# Altium integrated library Linear Technology Power Management Supercapacitor Chargers.IntLib: 96 symbols (part 2 of 8)
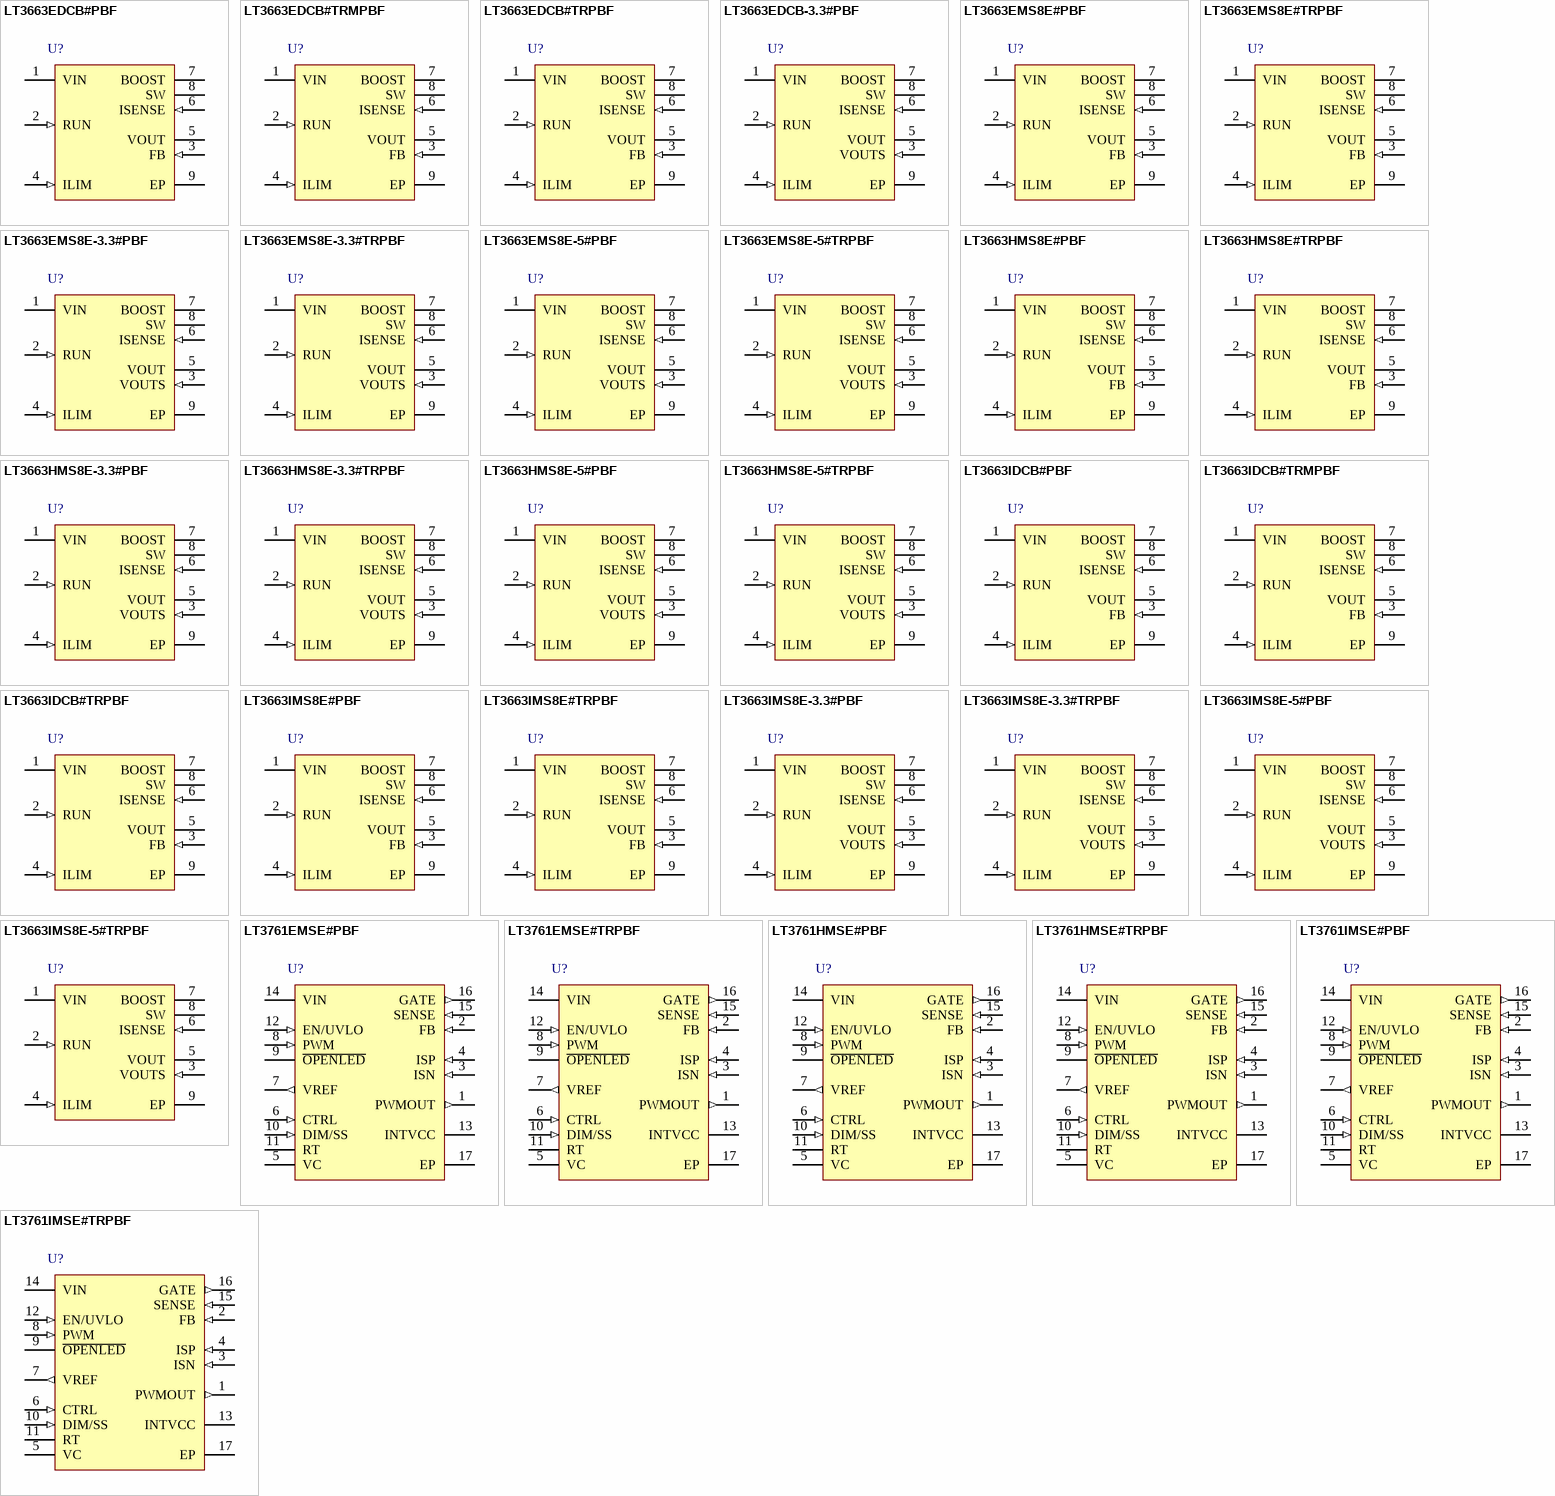
[diagram p4: symbols LT3663EDCB#PBF to LT3761IMSE#TRPBF]

## LT3663IMS8E#PBF
designator U?
1.2 A, 1.5 MHz Step-Down Switching Regulator with Output Current Limit, 7 to 36 V Vin, 5.5 V Vout MAX, 8-pin SOP (MS8E-8-EDP), -40 to 125 degC, Pb-Free; Manufacturer: Linear Technology; PartNumber: LT3663IMS8E#PBF; Output Current(A): 1.2; Topology: Buck; DatasheetVersion: Rev. C; PackageVersion: Rev. J, 10/2011; PackageReference: MS8E-8; PackageDescription: 8-Pin Plastic MSOP, Body 3.00 x 3.00 mm. Pitch 0.65 mm; Supplier 1: Digi-Key; Supplier Part Number 1: LT3663IMS8E#PBF-ND; RoHS: TRUE; Mounting Technology: Surface Mount; ComponentLink1Description: Manufacturer URL; ComponentLink1URL: http://www.linear.com/; ComponentLink2Description: Datasheet; ComponentLink2URL: http://cds.linear.com/docs/en/datasheet/3663fc.pdf; ComponentLink3Description: Package Specification; ComponentLink3URL: http://cds.linear.com/docs/en/packaging/05081662_K_MS8E.pdf
footprint LT-MS8E-8-EDP_N (SOP, 8-Leads, Body 3.1x3.1mm, Pitch 0.65mm, Thermal Pad 1.88x1.68mm, IPC Medium Density)
footprint LT-MS8E-8-EDP_L (SOP, 8-Leads, Body 3.1x3.1mm, Pitch 0.65mm, Thermal Pad 1.88x1.68mm, IPC High Density)
footprint LT-MS8E-8-EDP_M (SOP, 8-Leads, Body 3.1x3.1mm, Pitch 0.65mm, Thermal Pad 1.88x1.68mm, IPC Low Density)
pins: 1 VIN (power) "The VIN pin supplies current to the LT3663’s internal regulator and internal power switch. Capacitively bypass the pin to ground.", 2 RUN (in) "The Run pin is used to put the LT3663 into shutdown mode. Tie to ground to shut down the LT3663. Tie to 2.5V or more for normal operation. If the shutdown feature is not used, connect this pin to VIN.", 3 FB (in) "The LT3663 regulates the FB pin to 0.8V. Connect the feedback resistor divider tap to this pin.", 4 ILIM (in) "Output Current Limit Program Pin. Connect a resistor to ground to program the regulator output current limit.", 5 VOUT (power) "The VOUT pin is connected to the negative terminal of the internal output current limit sense resistor.", 6 ISENSE (in) "The ISENSE pin is the positive input to the internal output current limit sense resistor. The ISENSE pin is also the anode to the internal BOOST diode.", 7 BOOST "The BOOST pin is used to provide a drive voltage, higher than the input voltage, to the internal power switch. The BOOST pin is also internally connected to the cathode of the BOOST diode.", 8 SW "The SW pin is the output of the internal power switch. Connect this pin to the inductor, catch diode and boost capacitor.", 9 EP (power) "Ground. The exposed pad must be soldered to the PCB and electrically connected to ground. Use a large ground plane and thermal vias to optimize thermal performance."

## LT3663IMS8E#TRPBF
designator U?
1.2 A, 1.5 MHz Step-Down Switching Regulator with Output Current Limit, 7 to 36 V Vin, 5.5 V Vout MAX, 8-pin SOP (MS8E-8-EDP), -40 to 125 degC, Pb-Free, Tape and Reel; Manufacturer: Linear Technology; PartNumber: LT3663IMS8E#TRPBF; Output Current(A): 1.2; Topology: Buck; DatasheetVersion: Rev. C; PackageVersion: Rev. J, 10/2011; PackageReference: MS8E-8; PackageDescription: 8-Pin Plastic MSOP, Body 3.00 x 3.00 mm. Pitch 0.65 mm; Supplier 1: Digi-Key; Supplier Part Number 1: LT3663IMS8E#TRPBF-ND; Packing: Tape and Reel; RoHS: TRUE; Mounting Technology: Surface Mount; ComponentLink1Description: Manufacturer URL; ComponentLink1URL: http://www.linear.com/; ComponentLink2Description: Datasheet; ComponentLink2URL: http://cds.linear.com/docs/en/datasheet/3663fc.pdf; ComponentLink3Description: Package Specification; ComponentLink3URL: http://cds.linear.com/docs/en/packaging/05081662_K_MS8E.pdf
footprint LT-MS8E-8-EDP_N (SOP, 8-Leads, Body 3.1x3.1mm, Pitch 0.65mm, Thermal Pad 1.88x1.68mm, IPC Medium Density)
footprint LT-MS8E-8-EDP_L (SOP, 8-Leads, Body 3.1x3.1mm, Pitch 0.65mm, Thermal Pad 1.88x1.68mm, IPC High Density)
footprint LT-MS8E-8-EDP_M (SOP, 8-Leads, Body 3.1x3.1mm, Pitch 0.65mm, Thermal Pad 1.88x1.68mm, IPC Low Density)
pins: 1 VIN (power) "The VIN pin supplies current to the LT3663’s internal regulator and internal power switch. Capacitively bypass the pin to ground.", 2 RUN (in) "The Run pin is used to put the LT3663 into shutdown mode. Tie to ground to shut down the LT3663. Tie to 2.5V or more for normal operation. If the shutdown feature is not used, connect this pin to VIN.", 3 FB (in) "The LT3663 regulates the FB pin to 0.8V. Connect the feedback resistor divider tap to this pin.", 4 ILIM (in) "Output Current Limit Program Pin. Connect a resistor to ground to program the regulator output current limit.", 5 VOUT (power) "The VOUT pin is connected to the negative terminal of the internal output current limit sense resistor.", 6 ISENSE (in) "The ISENSE pin is the positive input to the internal output current limit sense resistor. The ISENSE pin is also the anode to the internal BOOST diode.", 7 BOOST "The BOOST pin is used to provide a drive voltage, higher than the input voltage, to the internal power switch. The BOOST pin is also internally connected to the cathode of the BOOST diode.", 8 SW "The SW pin is the output of the internal power switch. Connect this pin to the inductor, catch diode and boost capacitor.", 9 EP (power) "Ground. The exposed pad must be soldered to the PCB and electrically connected to ground. Use a large ground plane and thermal vias to optimize thermal performance."

## LT3663IMS8E-3.3#PBF
designator U?
1.2 A, 1.5 MHz Step-Down Switching Regulator with Output Current Limit, 7 to 36 V Vin, 3.3 V Vout MAX, 8-pin SOP (MS8E-8-EDP), -40 to 125 degC, Pb-Free; Manufacturer: Linear Technology; PartNumber: LT3663IMS8E-3.3#PBF; Output Current(A): 1.2; Topology: Buck; DatasheetVersion: Rev. C; PackageVersion: Rev. J, 10/2011; PackageReference: MS8E-8; PackageDescription: 8-Pin Plastic MSOP, Body 3.00 x 3.00 mm. Pitch 0.65 mm; Supplier 1: Digi-Key; Supplier Part Number 1: LT3663IMS8E-3.3#PBF-ND; Supplier 2: Newark; Supplier Part Number 2: 13T8484; RoHS: TRUE; Mounting Technology: Surface Mount; ComponentLink1Description: Manufacturer URL; ComponentLink1URL: http://www.linear.com/; ComponentLink2Description: Datasheet; ComponentLink2URL: http://cds.linear.com/docs/en/datasheet/3663fc.pdf; ComponentLink3Description: Package Specification; ComponentLink3URL: http://cds.linear.com/docs/en/packaging/05081662_K_MS8E.pdf
footprint LT-MS8E-8-EDP_N (SOP, 8-Leads, Body 3.1x3.1mm, Pitch 0.65mm, Thermal Pad 1.88x1.68mm, IPC Medium Density)
footprint LT-MS8E-8-EDP_L (SOP, 8-Leads, Body 3.1x3.1mm, Pitch 0.65mm, Thermal Pad 1.88x1.68mm, IPC High Density)
footprint LT-MS8E-8-EDP_M (SOP, 8-Leads, Body 3.1x3.1mm, Pitch 0.65mm, Thermal Pad 1.88x1.68mm, IPC Low Density)
pins: 1 VIN (power) "The VIN pin supplies current to the LT3663’s internal regulator and internal power switch. Capacitively bypass the pin to ground.", 2 RUN (in) "The Run pin is used to put the LT3663 into shutdown mode. Tie to ground to shut down the LT3663. Tie to 2.5V or more for normal operation. If the shutdown feature is not used, connect this pin to VIN.", 3 VOUTS (in) "Output Voltage Sense Pin. Connect to the positive terminal of the output capacitor.", 4 ILIM (in) "Output Current Limit Program Pin. Connect a resistor to ground to program the regulator output current limit.", 5 VOUT (power) "The VOUT pin is connected to the negative terminal of the internal output current limit sense resistor.", 6 ISENSE (in) "The ISENSE pin is the positive input to the internal output current limit sense resistor. The ISENSE pin is also the anode to the internal BOOST diode.", 7 BOOST "The BOOST pin is used to provide a drive voltage, higher than the input voltage, to the internal power switch. The BOOST pin is also internally connected to the cathode of the BOOST diode.", 8 SW "The SW pin is the output of the internal power switch. Connect this pin to the inductor, catch diode and boost capacitor.", 9 EP (power) "Ground. The exposed pad must be soldered to the PCB and electrically connected to ground. Use a large ground plane and thermal vias to optimize thermal performance."

## LT3663IMS8E-3.3#TRPBF
designator U?
1.2 A, 1.5 MHz Step-Down Switching Regulator with Output Current Limit, 7 to 36 V Vin, 3.3 V Vout MAX, 8-pin SOP (MS8E-8-EDP), -40 to 125 degC, Pb-Free, Tape and Reel; Manufacturer: Linear Technology; PartNumber: LT3663IMS8E-3.3#TRPBF; Output Current(A): 1.2; Topology: Buck; DatasheetVersion: Rev. C; PackageVersion: Rev. J, 10/2011; PackageReference: MS8E-8; PackageDescription: 8-Pin Plastic MSOP, Body 3.00 x 3.00 mm. Pitch 0.65 mm; Supplier 1: Digi-Key; Supplier Part Number 1: LT3663IMS8E-3.3#TRPBF-ND; Packing: Tape and Reel; RoHS: TRUE; Mounting Technology: Surface Mount; ComponentLink1Description: Manufacturer URL; ComponentLink1URL: http://www.linear.com/; ComponentLink2Description: Datasheet; ComponentLink2URL: http://cds.linear.com/docs/en/datasheet/3663fc.pdf; ComponentLink3Description: Package Specification; ComponentLink3URL: http://cds.linear.com/docs/en/packaging/05081662_K_MS8E.pdf
footprint LT-MS8E-8-EDP_N (SOP, 8-Leads, Body 3.1x3.1mm, Pitch 0.65mm, Thermal Pad 1.88x1.68mm, IPC Medium Density)
footprint LT-MS8E-8-EDP_L (SOP, 8-Leads, Body 3.1x3.1mm, Pitch 0.65mm, Thermal Pad 1.88x1.68mm, IPC High Density)
footprint LT-MS8E-8-EDP_M (SOP, 8-Leads, Body 3.1x3.1mm, Pitch 0.65mm, Thermal Pad 1.88x1.68mm, IPC Low Density)
pins: 1 VIN (power) "The VIN pin supplies current to the LT3663’s internal regulator and internal power switch. Capacitively bypass the pin to ground.", 2 RUN (in) "The Run pin is used to put the LT3663 into shutdown mode. Tie to ground to shut down the LT3663. Tie to 2.5V or more for normal operation. If the shutdown feature is not used, connect this pin to VIN.", 3 VOUTS (in) "Output Voltage Sense Pin. Connect to the positive terminal of the output capacitor.", 4 ILIM (in) "Output Current Limit Program Pin. Connect a resistor to ground to program the regulator output current limit.", 5 VOUT (power) "The VOUT pin is connected to the negative terminal of the internal output current limit sense resistor.", 6 ISENSE (in) "The ISENSE pin is the positive input to the internal output current limit sense resistor. The ISENSE pin is also the anode to the internal BOOST diode.", 7 BOOST "The BOOST pin is used to provide a drive voltage, higher than the input voltage, to the internal power switch. The BOOST pin is also internally connected to the cathode of the BOOST diode.", 8 SW "The SW pin is the output of the internal power switch. Connect this pin to the inductor, catch diode and boost capacitor.", 9 EP (power) "Ground. The exposed pad must be soldered to the PCB and electrically connected to ground. Use a large ground plane and thermal vias to optimize thermal performance."

## LT3663IMS8E-5#PBF
designator U?
1.2 A, 1.5 MHz Step-Down Switching Regulator with Output Current Limit, 7 to 36 V Vin, 8-pin SOP (MS8E-8-EDP), -40 to 125 degC, Pb-Free; Manufacturer: Linear Technology; PartNumber: LT3663IMS8E-5#PBF; Output Current(A): 1.2; Topology: Buck; DatasheetVersion: Rev. C; PackageVersion: Rev. J, 10/2011; PackageReference: MS8E-8; PackageDescription: 8-Pin Plastic MSOP, Body 3.00 x 3.00 mm. Pitch 0.65 mm; Supplier 1: Digi-Key; Supplier Part Number 1: LT3663IMS8E-5#PBF-ND; Supplier 2: Newark; Supplier Part Number 2: 13T8486; RoHS: TRUE; Mounting Technology: Surface Mount; ComponentLink1Description: Manufacturer URL; ComponentLink1URL: http://www.linear.com/; ComponentLink2Description: Datasheet; ComponentLink2URL: http://cds.linear.com/docs/en/datasheet/3663fc.pdf; ComponentLink3Description: Package Specification; ComponentLink3URL: http://cds.linear.com/docs/en/packaging/05081662_K_MS8E.pdf
footprint LT-MS8E-8-EDP_N (SOP, 8-Leads, Body 3.1x3.1mm, Pitch 0.65mm, Thermal Pad 1.88x1.68mm, IPC Medium Density)
footprint LT-MS8E-8-EDP_L (SOP, 8-Leads, Body 3.1x3.1mm, Pitch 0.65mm, Thermal Pad 1.88x1.68mm, IPC High Density)
footprint LT-MS8E-8-EDP_M (SOP, 8-Leads, Body 3.1x3.1mm, Pitch 0.65mm, Thermal Pad 1.88x1.68mm, IPC Low Density)
pins: 1 VIN (power) "The VIN pin supplies current to the LT3663’s internal regulator and internal power switch. Capacitively bypass the pin to ground.", 2 RUN (in) "The Run pin is used to put the LT3663 into shutdown mode. Tie to ground to shut down the LT3663. Tie to 2.5V or more for normal operation. If the shutdown feature is not used, connect this pin to VIN.", 3 VOUTS (in) "Output Voltage Sense Pin. Connect to the positive terminal of the output capacitor.", 4 ILIM (in) "Output Current Limit Program Pin. Connect a resistor to ground to program the regulator output current limit.", 5 VOUT (power) "The VOUT pin is connected to the negative terminal of the internal output current limit sense resistor.", 6 ISENSE (in) "The ISENSE pin is the positive input to the internal output current limit sense resistor. The ISENSE pin is also the anode to the internal BOOST diode.", 7 BOOST "The BOOST pin is used to provide a drive voltage, higher than the input voltage, to the internal power switch. The BOOST pin is also internally connected to the cathode of the BOOST diode.", 8 SW "The SW pin is the output of the internal power switch. Connect this pin to the inductor, catch diode and boost capacitor.", 9 EP (power) "Ground. The exposed pad must be soldered to the PCB and electrically connected to ground. Use a large ground plane and thermal vias to optimize thermal performance."

## LT3663IMS8E-5#TRPBF
designator U?
1.2 A, 1.5 MHz Step-Down Switching Regulator with Output Current Limit, 7 to 36 V Vin, 8-pin SOP (MS8E-8-EDP), -40 to 125 degC, Pb-Free, Tape and Reel; Manufacturer: Linear Technology; PartNumber: LT3663IMS8E-5#TRPBF; Output Current(A): 1.2; Topology: Buck; DatasheetVersion: Rev. C; PackageVersion: Rev. J, 10/2011; PackageReference: MS8E-8; PackageDescription: 8-Pin Plastic MSOP, Body 3.00 x 3.00 mm. Pitch 0.65 mm; Supplier 1: Digi-Key; Supplier Part Number 1: LT3663IMS8E-5#TRPBF-ND; Packing: Tape and Reel; RoHS: TRUE; Mounting Technology: Surface Mount; ComponentLink1Description: Manufacturer URL; ComponentLink1URL: http://www.linear.com/; ComponentLink2Description: Datasheet; ComponentLink2URL: http://cds.linear.com/docs/en/datasheet/3663fc.pdf; ComponentLink3Description: Package Specification; ComponentLink3URL: http://cds.linear.com/docs/en/packaging/05081662_K_MS8E.pdf
footprint LT-MS8E-8-EDP_N (SOP, 8-Leads, Body 3.1x3.1mm, Pitch 0.65mm, Thermal Pad 1.88x1.68mm, IPC Medium Density)
footprint LT-MS8E-8-EDP_L (SOP, 8-Leads, Body 3.1x3.1mm, Pitch 0.65mm, Thermal Pad 1.88x1.68mm, IPC High Density)
footprint LT-MS8E-8-EDP_M (SOP, 8-Leads, Body 3.1x3.1mm, Pitch 0.65mm, Thermal Pad 1.88x1.68mm, IPC Low Density)
pins: 1 VIN (power) "The VIN pin supplies current to the LT3663’s internal regulator and internal power switch. Capacitively bypass the pin to ground.", 2 RUN (in) "The Run pin is used to put the LT3663 into shutdown mode. Tie to ground to shut down the LT3663. Tie to 2.5V or more for normal operation. If the shutdown feature is not used, connect this pin to VIN.", 3 VOUTS (in) "Output Voltage Sense Pin. Connect to the positive terminal of the output capacitor.", 4 ILIM (in) "Output Current Limit Program Pin. Connect a resistor to ground to program the regulator output current limit.", 5 VOUT (power) "The VOUT pin is connected to the negative terminal of the internal output current limit sense resistor.", 6 ISENSE (in) "The ISENSE pin is the positive input to the internal output current limit sense resistor. The ISENSE pin is also the anode to the internal BOOST diode.", 7 BOOST "The BOOST pin is used to provide a drive voltage, higher than the input voltage, to the internal power switch. The BOOST pin is also internally connected to the cathode of the BOOST diode.", 8 SW "The SW pin is the output of the internal power switch. Connect this pin to the inductor, catch diode and boost capacitor.", 9 EP (power) "Ground. The exposed pad must be soldered to the PCB and electrically connected to ground. Use a large ground plane and thermal vias to optimize thermal performance."

## LT3761EMSE#PBF
designator U?
LED Controller with Internal PWM Generator, 4.5 to 60 V Vin, 100 V Vout MAX, 16-pin SOP (MSE-16-EDP), -40 to 125 degC, Pb-Free; Manufacturer: Linear Technology; PartNumber: LT3761EMSE#PBF; Output Current(A): 10; Topology: Buck, Boost, Buck-Boost, Sepic; PackageVersion: Rev. F, 05/2013; PackageReference: MSE-16; PackageDescription: 16-Pin Plastic MSOP, Exposed Die Pad, Body 4.039 x 3 mm, Pitch 0.5 mm; Supplier 1: Digi-Key; Supplier Part Number 1: LT3761EMSE#PBF-ND; Supplier 2: Farnell; Supplier Part Number 2: 2215155; Supplier 3: Newark; Supplier Part Number 3: 44W6851; RoHS: TRUE; Mounting Technology: Surface Mount; ComponentLink1Description: Manufacturer URL; ComponentLink1URL: http://www.linear.com/; ComponentLink2Description: Datasheet; ComponentLink2URL: http://cds.linear.com/docs/en/datasheet/3761f.pdf; ComponentLink3Description: Package Specification; ComponentLink3URL: http://cds.linear.com/docs/en/packaging/05081667_F_MSE16.pdf
footprint LT-MSE-16-EDP_N (SOP, 16-Leads, Body 4.1x3.1mm, Pitch 0.5mm, Thermal Pad 2.95x1.76mm, IPC Medium Density)
footprint LT-MSE-16-EDP_L (SOP, 16-Leads, Body 4.1x3.1mm, Pitch 0.5mm, Thermal Pad 2.95x1.76mm, IPC High Density)
footprint LT-MSE-16-EDP_M (SOP, 16-Leads, Body 4.1x3.1mm, Pitch 0.5mm, Thermal Pad 2.95x1.76mm, IPC Low Density)
pins: 1 PWMOUT (out) "Buffered Version of PWM Signal for Driving LED Load Disconnect NMOS or Level Shift. This pin also serves in a protection function for the FB overvoltage condition-will toggle if the FB input is greater than the FB regulation (See Datasheet)", 2 FB (in) "Voltage Loop Feedback Pin. FB is intended for constant-voltage regulation or for LED protection and open LED detection. The internal transconductance amplifier with output VC will regulate FB to 1.25V (nominal) through the (See Datasheet)", 3 ISN (in) "Connection Point for the Negative Terminal of the Current Feedback Resistor. The constant output current regulation can be programmed by ILED = 250mV/RLED when CTRL > 1.2V or ILED = (CTRL - 100mV)/(4 • RLED). If ISN i(See Datasheet)", 4 ISP (in) "Connection Point for the Positive Terminal of the Current Feedback Resistor. Input bias current depends upon CTRL pin voltage. When it is greater than INTVCC it flows into the pin. Below INTVCC, ISP bias current decreases (See Datasheet)", 5 VC "Transconductance Error Amplifier Output Pin Used to Stabilize the Switching Regulator Control Loop with an RC Network. The VC pin is high impedance when PWM is low. This feature allows the VC pin to store the demand current (See Datasheet)", 6 CTRL (in) "Current Sense Threshold Adjustment Pin. Constant current regulation point VISP-ISN is one-fourth VCTRL plus an offset for 0V =< CTRL =< 1V. For CTRL > 1.2V the VISP-ISN current regulation point is constant at the full-scale (See Datasheet)", 7 VREF (out) "Voltage Reference Output Pin, Typically 2V. This pin drives a resistor divider for the CTRL pin, either for analog dimming or for temperature limit/compensation of LED load. It can be bypassed with 10nF or greater, or less (See Datasheet)", 8 PWM (in) "A signal low turns off switcher, idles the oscillator and disconnects the VC pin from all internal loads. PWMOUT pin follows the PWM pin, except in fault conditions. The PWM pin can be driven with a digital signal to cause (See Datasheet)", 9 ~{OPENLED} (oc) "An open-drain pull-down on this pin asserts if the FB input is greater than the FB regulation voltage (VFB) minus 50mV (typical) AND the difference between current sense inputs ISP and ISN is less than 25mV. To function, the (See Datasheet)", 10 DIM/SS (in) "Soft-Start and PWMOUT Dimming Signal Generator Programming Pin. This pin modulates switching regulator frequency and compensation pin voltage (VC) clamp when it is below 1V. The soft-start interval is set with an external (See Datasheet)", 11 RT "Switching Frequency Adjustment Pin. Set the frequency using a resistor to GND (for resistor values, see the Typical Performance curve or Table 2). Do not leave the RT pin open. Place the resistor close to the IC.", 12 EN/UVLO (in) "Enable and Undervoltage Detect Pin. An accurate 1.22V falling threshold with externally programmable hysteresis causes the switching regulator to shut down when power is insufficient to maintain output regulation. Above the (See Datasheet)", 13 INTVCC (power) "Current limited, low dropout linear regulator regulates to 7.85V (typical) from VIN. Supplies internal loads, GATE and PWMOUT drivers. Must be bypassed with a 1uF ceramic capacitor placed close to the pin and to the exposed (See Datasheet)", 14 VIN (power) "Power Supply for Internal Loads and INTVCC Regulator. Must be locally bypassed with a 0.22uF (or larger) low ESR capacitor placed close to the pin.", 15 SENSE (in) "The Current Sense Input for the Switch Control Loop. Kelvin connect the SENSE pin to the positive terminal of the switch current sense resistor in the source of the external power NFET. The negative terminal of the switch (See Datasheet)", 16 GATE (out) "N-channel FET Gate Driver Output. Switches between INTVCC and GND. Driven to GND during shutdown, fault or idle states.", 17 EP (power) "Ground. This pin also serves as current sense input for the control loop, sensing the negative terminal of the current sense resistor. Solder the exposed pad directly to the ground plane."

## LT3761EMSE#TRPBF
designator U?
LED Controller with Internal PWM Generator, 4.5 to 60 V Vin, 100 V Vout MAX, 16-pin SOP (MSE-16-EDP), -40 to 125 degC, Pb-Free, Tape and Reel; Manufacturer: Linear Technology; PartNumber: LT3761EMSE#TRPBF; Output Current(A): 10; Topology: Buck, Boost, Buck-Boost, Sepic; PackageVersion: Rev. F, 05/2013; PackageReference: MSE-16; PackageDescription: 16-Pin Plastic MSOP, Exposed Die Pad, Body 4.039 x 3 mm, Pitch 0.5 mm; Supplier 1: Digi-Key; Supplier Part Number 1: LT3761EMSE#TRPBF-ND; Supplier 2: Newark; Supplier Part Number 2: 44W6852; Packing: Tape and Reel; RoHS: TRUE; Mounting Technology: Surface Mount; ComponentLink1Description: Manufacturer URL; ComponentLink1URL: http://www.linear.com/; ComponentLink2Description: Datasheet; ComponentLink2URL: http://cds.linear.com/docs/en/datasheet/3761f.pdf; ComponentLink3Description: Package Specification; ComponentLink3URL: http://cds.linear.com/docs/en/packaging/05081667_F_MSE16.pdf
footprint LT-MSE-16-EDP_N (SOP, 16-Leads, Body 4.1x3.1mm, Pitch 0.5mm, Thermal Pad 2.95x1.76mm, IPC Medium Density)
footprint LT-MSE-16-EDP_L (SOP, 16-Leads, Body 4.1x3.1mm, Pitch 0.5mm, Thermal Pad 2.95x1.76mm, IPC High Density)
footprint LT-MSE-16-EDP_M (SOP, 16-Leads, Body 4.1x3.1mm, Pitch 0.5mm, Thermal Pad 2.95x1.76mm, IPC Low Density)
pins: 1 PWMOUT (out) "Buffered Version of PWM Signal for Driving LED Load Disconnect NMOS or Level Shift. This pin also serves in a protection function for the FB overvoltage condition-will toggle if the FB input is greater than the FB regulation (See Datasheet)", 2 FB (in) "Voltage Loop Feedback Pin. FB is intended for constant-voltage regulation or for LED protection and open LED detection. The internal transconductance amplifier with output VC will regulate FB to 1.25V (nominal) through the (See Datasheet)", 3 ISN (in) "Connection Point for the Negative Terminal of the Current Feedback Resistor. The constant output current regulation can be programmed by ILED = 250mV/RLED when CTRL > 1.2V or ILED = (CTRL - 100mV)/(4 • RLED). If ISN i(See Datasheet)", 4 ISP (in) "Connection Point for the Positive Terminal of the Current Feedback Resistor. Input bias current depends upon CTRL pin voltage. When it is greater than INTVCC it flows into the pin. Below INTVCC, ISP bias current decreases (See Datasheet)", 5 VC "Transconductance Error Amplifier Output Pin Used to Stabilize the Switching Regulator Control Loop with an RC Network. The VC pin is high impedance when PWM is low. This feature allows the VC pin to store the demand current (See Datasheet)", 6 CTRL (in) "Current Sense Threshold Adjustment Pin. Constant current regulation point VISP-ISN is one-fourth VCTRL plus an offset for 0V =< CTRL =< 1V. For CTRL > 1.2V the VISP-ISN current regulation point is constant at the full-scale (See Datasheet)", 7 VREF (out) "Voltage Reference Output Pin, Typically 2V. This pin drives a resistor divider for the CTRL pin, either for analog dimming or for temperature limit/compensation of LED load. It can be bypassed with 10nF or greater, or less (See Datasheet)", 8 PWM (in) "A signal low turns off switcher, idles the oscillator and disconnects the VC pin from all internal loads. PWMOUT pin follows the PWM pin, except in fault conditions. The PWM pin can be driven with a digital signal to cause (See Datasheet)", 9 ~{OPENLED} (oc) "An open-drain pull-down on this pin asserts if the FB input is greater than the FB regulation voltage (VFB) minus 50mV (typical) AND the difference between current sense inputs ISP and ISN is less than 25mV. To function, the (See Datasheet)", 10 DIM/SS (in) "Soft-Start and PWMOUT Dimming Signal Generator Programming Pin. This pin modulates switching regulator frequency and compensation pin voltage (VC) clamp when it is below 1V. The soft-start interval is set with an external (See Datasheet)", 11 RT "Switching Frequency Adjustment Pin. Set the frequency using a resistor to GND (for resistor values, see the Typical Performance curve or Table 2). Do not leave the RT pin open. Place the resistor close to the IC.", 12 EN/UVLO (in) "Enable and Undervoltage Detect Pin. An accurate 1.22V falling threshold with externally programmable hysteresis causes the switching regulator to shut down when power is insufficient to maintain output regulation. Above the (See Datasheet)", 13 INTVCC (power) "Current limited, low dropout linear regulator regulates to 7.85V (typical) from VIN. Supplies internal loads, GATE and PWMOUT drivers. Must be bypassed with a 1uF ceramic capacitor placed close to the pin and to the exposed (See Datasheet)", 14 VIN (power) "Power Supply for Internal Loads and INTVCC Regulator. Must be locally bypassed with a 0.22uF (or larger) low ESR capacitor placed close to the pin.", 15 SENSE (in) "The Current Sense Input for the Switch Control Loop. Kelvin connect the SENSE pin to the positive terminal of the switch current sense resistor in the source of the external power NFET. The negative terminal of the switch (See Datasheet)", 16 GATE (out) "N-channel FET Gate Driver Output. Switches between INTVCC and GND. Driven to GND during shutdown, fault or idle states.", 17 EP (power) "Ground. This pin also serves as current sense input for the control loop, sensing the negative terminal of the current sense resistor. Solder the exposed pad directly to the ground plane."

## LT3761HMSE#PBF
designator U?
LED Controller with Internal PWM Generator, 4.5 to 60 V Vin, 100 V Vout MAX, 16-pin SOP (MSE-16-EDP), -40 to 150 degC, Pb-Free; Manufacturer: Linear Technology; PartNumber: LT3761HMSE#PBF; Output Current(A): 10; Topology: Buck, Boost, Buck-Boost, Sepic; PackageVersion: Rev. F, 05/2013; PackageReference: MSE-16; PackageDescription: 16-Pin Plastic MSOP, Exposed Die Pad, Body 4.039 x 3 mm, Pitch 0.5 mm; Supplier 1: Digi-Key; Supplier Part Number 1: LT3761HMSE#PBF-ND; Supplier 2: Farnell; Supplier Part Number 2: 2215156; Supplier 3: Newark; Supplier Part Number 3: 44W6853; RoHS: TRUE; Mounting Technology: Surface Mount; ComponentLink1Description: Manufacturer URL; ComponentLink1URL: http://www.linear.com/; ComponentLink2Description: Datasheet; ComponentLink2URL: http://cds.linear.com/docs/en/datasheet/3761f.pdf; ComponentLink3Description: Package Specification; ComponentLink3URL: http://cds.linear.com/docs/en/packaging/05081667_F_MSE16.pdf
footprint LT-MSE-16-EDP_N (SOP, 16-Leads, Body 4.1x3.1mm, Pitch 0.5mm, Thermal Pad 2.95x1.76mm, IPC Medium Density)
footprint LT-MSE-16-EDP_L (SOP, 16-Leads, Body 4.1x3.1mm, Pitch 0.5mm, Thermal Pad 2.95x1.76mm, IPC High Density)
footprint LT-MSE-16-EDP_M (SOP, 16-Leads, Body 4.1x3.1mm, Pitch 0.5mm, Thermal Pad 2.95x1.76mm, IPC Low Density)
pins: 1 PWMOUT (out) "Buffered Version of PWM Signal for Driving LED Load Disconnect NMOS or Level Shift. This pin also serves in a protection function for the FB overvoltage condition-will toggle if the FB input is greater than the FB regulation (See Datasheet)", 2 FB (in) "Voltage Loop Feedback Pin. FB is intended for constant-voltage regulation or for LED protection and open LED detection. The internal transconductance amplifier with output VC will regulate FB to 1.25V (nominal) through the (See Datasheet)", 3 ISN (in) "Connection Point for the Negative Terminal of the Current Feedback Resistor. The constant output current regulation can be programmed by ILED = 250mV/RLED when CTRL > 1.2V or ILED = (CTRL - 100mV)/(4 • RLED). If ISN i(See Datasheet)", 4 ISP (in) "Connection Point for the Positive Terminal of the Current Feedback Resistor. Input bias current depends upon CTRL pin voltage. When it is greater than INTVCC it flows into the pin. Below INTVCC, ISP bias current decreases (See Datasheet)", 5 VC "Transconductance Error Amplifier Output Pin Used to Stabilize the Switching Regulator Control Loop with an RC Network. The VC pin is high impedance when PWM is low. This feature allows the VC pin to store the demand current (See Datasheet)", 6 CTRL (in) "Current Sense Threshold Adjustment Pin. Constant current regulation point VISP-ISN is one-fourth VCTRL plus an offset for 0V =< CTRL =< 1V. For CTRL > 1.2V the VISP-ISN current regulation point is constant at the full-scale (See Datasheet)", 7 VREF (out) "Voltage Reference Output Pin, Typically 2V. This pin drives a resistor divider for the CTRL pin, either for analog dimming or for temperature limit/compensation of LED load. It can be bypassed with 10nF or greater, or less (See Datasheet)", 8 PWM (in) "A signal low turns off switcher, idles the oscillator and disconnects the VC pin from all internal loads. PWMOUT pin follows the PWM pin, except in fault conditions. The PWM pin can be driven with a digital signal to cause (See Datasheet)", 9 ~{OPENLED} (oc) "An open-drain pull-down on this pin asserts if the FB input is greater than the FB regulation voltage (VFB) minus 50mV (typical) AND the difference between current sense inputs ISP and ISN is less than 25mV. To function, the (See Datasheet)", 10 DIM/SS (in) "Soft-Start and PWMOUT Dimming Signal Generator Programming Pin. This pin modulates switching regulator frequency and compensation pin voltage (VC) clamp when it is below 1V. The soft-start interval is set with an external (See Datasheet)", 11 RT "Switching Frequency Adjustment Pin. Set the frequency using a resistor to GND (for resistor values, see the Typical Performance curve or Table 2). Do not leave the RT pin open. Place the resistor close to the IC.", 12 EN/UVLO (in) "Enable and Undervoltage Detect Pin. An accurate 1.22V falling threshold with externally programmable hysteresis causes the switching regulator to shut down when power is insufficient to maintain output regulation. Above the (See Datasheet)", 13 INTVCC (power) "Current limited, low dropout linear regulator regulates to 7.85V (typical) from VIN. Supplies internal loads, GATE and PWMOUT drivers. Must be bypassed with a 1uF ceramic capacitor placed close to the pin and to the exposed (See Datasheet)", 14 VIN (power) "Power Supply for Internal Loads and INTVCC Regulator. Must be locally bypassed with a 0.22uF (or larger) low ESR capacitor placed close to the pin.", 15 SENSE (in) "The Current Sense Input for the Switch Control Loop. Kelvin connect the SENSE pin to the positive terminal of the switch current sense resistor in the source of the external power NFET. The negative terminal of the switch (See Datasheet)", 16 GATE (out) "N-channel FET Gate Driver Output. Switches between INTVCC and GND. Driven to GND during shutdown, fault or idle states.", 17 EP (power) "Ground. This pin also serves as current sense input for the control loop, sensing the negative terminal of the current sense resistor. Solder the exposed pad directly to the ground plane."

## LT3761HMSE#TRPBF
designator U?
LED Controller with Internal PWM Generator, 4.5 to 60 V Vin, 100 V Vout MAX, 16-pin SOP (MSE-16-EDP), -40 to 150 degC, Pb-Free, Tape and Reel; Manufacturer: Linear Technology; PartNumber: LT3761HMSE#TRPBF; Output Current(A): 10; Topology: Buck, Boost, Buck-Boost, Sepic; PackageVersion: Rev. F, 05/2013; PackageReference: MSE-16; PackageDescription: 16-Pin Plastic MSOP, Exposed Die Pad, Body 4.039 x 3 mm, Pitch 0.5 mm; Supplier 1: Digi-Key; Supplier Part Number 1: LT3761HMSE#TRPBF-ND; Supplier 2: Newark; Supplier Part Number 2: 44W6854; Packing: Tape and Reel; RoHS: TRUE; Mounting Technology: Surface Mount; ComponentLink1Description: Manufacturer URL; ComponentLink1URL: http://www.linear.com/; ComponentLink2Description: Datasheet; ComponentLink2URL: http://cds.linear.com/docs/en/datasheet/3761f.pdf; ComponentLink3Description: Package Specification; ComponentLink3URL: http://cds.linear.com/docs/en/packaging/05081667_F_MSE16.pdf
footprint LT-MSE-16-EDP_N (SOP, 16-Leads, Body 4.1x3.1mm, Pitch 0.5mm, Thermal Pad 2.95x1.76mm, IPC Medium Density)
footprint LT-MSE-16-EDP_L (SOP, 16-Leads, Body 4.1x3.1mm, Pitch 0.5mm, Thermal Pad 2.95x1.76mm, IPC High Density)
footprint LT-MSE-16-EDP_M (SOP, 16-Leads, Body 4.1x3.1mm, Pitch 0.5mm, Thermal Pad 2.95x1.76mm, IPC Low Density)
pins: 1 PWMOUT (out) "Buffered Version of PWM Signal for Driving LED Load Disconnect NMOS or Level Shift. This pin also serves in a protection function for the FB overvoltage condition-will toggle if the FB input is greater than the FB regulation (See Datasheet)", 2 FB (in) "Voltage Loop Feedback Pin. FB is intended for constant-voltage regulation or for LED protection and open LED detection. The internal transconductance amplifier with output VC will regulate FB to 1.25V (nominal) through the (See Datasheet)", 3 ISN (in) "Connection Point for the Negative Terminal of the Current Feedback Resistor. The constant output current regulation can be programmed by ILED = 250mV/RLED when CTRL > 1.2V or ILED = (CTRL - 100mV)/(4 • RLED). If ISN i(See Datasheet)", 4 ISP (in) "Connection Point for the Positive Terminal of the Current Feedback Resistor. Input bias current depends upon CTRL pin voltage. When it is greater than INTVCC it flows into the pin. Below INTVCC, ISP bias current decreases (See Datasheet)", 5 VC "Transconductance Error Amplifier Output Pin Used to Stabilize the Switching Regulator Control Loop with an RC Network. The VC pin is high impedance when PWM is low. This feature allows the VC pin to store the demand current (See Datasheet)", 6 CTRL (in) "Current Sense Threshold Adjustment Pin. Constant current regulation point VISP-ISN is one-fourth VCTRL plus an offset for 0V =< CTRL =< 1V. For CTRL > 1.2V the VISP-ISN current regulation point is constant at the full-scale (See Datasheet)", 7 VREF (out) "Voltage Reference Output Pin, Typically 2V. This pin drives a resistor divider for the CTRL pin, either for analog dimming or for temperature limit/compensation of LED load. It can be bypassed with 10nF or greater, or less (See Datasheet)", 8 PWM (in) "A signal low turns off switcher, idles the oscillator and disconnects the VC pin from all internal loads. PWMOUT pin follows the PWM pin, except in fault conditions. The PWM pin can be driven with a digital signal to cause (See Datasheet)", 9 ~{OPENLED} (oc) "An open-drain pull-down on this pin asserts if the FB input is greater than the FB regulation voltage (VFB) minus 50mV (typical) AND the difference between current sense inputs ISP and ISN is less than 25mV. To function, the (See Datasheet)", 10 DIM/SS (in) "Soft-Start and PWMOUT Dimming Signal Generator Programming Pin. This pin modulates switching regulator frequency and compensation pin voltage (VC) clamp when it is below 1V. The soft-start interval is set with an external (See Datasheet)", 11 RT "Switching Frequency Adjustment Pin. Set the frequency using a resistor to GND (for resistor values, see the Typical Performance curve or Table 2). Do not leave the RT pin open. Place the resistor close to the IC.", 12 EN/UVLO (in) "Enable and Undervoltage Detect Pin. An accurate 1.22V falling threshold with externally programmable hysteresis causes the switching regulator to shut down when power is insufficient to maintain output regulation. Above the (See Datasheet)", 13 INTVCC (power) "Current limited, low dropout linear regulator regulates to 7.85V (typical) from VIN. Supplies internal loads, GATE and PWMOUT drivers. Must be bypassed with a 1uF ceramic capacitor placed close to the pin and to the exposed (See Datasheet)", 14 VIN (power) "Power Supply for Internal Loads and INTVCC Regulator. Must be locally bypassed with a 0.22uF (or larger) low ESR capacitor placed close to the pin.", 15 SENSE (in) "The Current Sense Input for the Switch Control Loop. Kelvin connect the SENSE pin to the positive terminal of the switch current sense resistor in the source of the external power NFET. The negative terminal of the switch (See Datasheet)", 16 GATE (out) "N-channel FET Gate Driver Output. Switches between INTVCC and GND. Driven to GND during shutdown, fault or idle states.", 17 EP (power) "Ground. This pin also serves as current sense input for the control loop, sensing the negative terminal of the current sense resistor. Solder the exposed pad directly to the ground plane."

## LT3761IMSE#PBF
designator U?
LED Controller with Internal PWM Generator, 4.5 to 60 V Vin, 100 V Vout MAX, 16-pin SOP (MSE-16-EDP), -40 to 125 degC, Pb-Free; Manufacturer: Linear Technology; PartNumber: LT3761IMSE#PBF; Output Current(A): 10; Topology: Buck, Boost, Buck-Boost, Sepic; PackageVersion: Rev. F, 05/2013; PackageReference: MSE-16; PackageDescription: 16-Pin Plastic MSOP, Exposed Die Pad, Body 4.039 x 3 mm, Pitch 0.5 mm; Supplier 1: Digi-Key; Supplier Part Number 1: LT3761IMSE#PBF-ND; Supplier 2: Farnell; Supplier Part Number 2: 2215157; Supplier 3: Newark; Supplier Part Number 3: 44W6855; RoHS: TRUE; Mounting Technology: Surface Mount; ComponentLink1Description: Manufacturer URL; ComponentLink1URL: http://www.linear.com/; ComponentLink2Description: Datasheet; ComponentLink2URL: http://cds.linear.com/docs/en/datasheet/3761f.pdf; ComponentLink3Description: Package Specification; ComponentLink3URL: http://cds.linear.com/docs/en/packaging/05081667_F_MSE16.pdf
footprint LT-MSE-16-EDP_N (SOP, 16-Leads, Body 4.1x3.1mm, Pitch 0.5mm, Thermal Pad 2.95x1.76mm, IPC Medium Density)
footprint LT-MSE-16-EDP_L (SOP, 16-Leads, Body 4.1x3.1mm, Pitch 0.5mm, Thermal Pad 2.95x1.76mm, IPC High Density)
footprint LT-MSE-16-EDP_M (SOP, 16-Leads, Body 4.1x3.1mm, Pitch 0.5mm, Thermal Pad 2.95x1.76mm, IPC Low Density)
pins: 1 PWMOUT (out) "Buffered Version of PWM Signal for Driving LED Load Disconnect NMOS or Level Shift. This pin also serves in a protection function for the FB overvoltage condition-will toggle if the FB input is greater than the FB regulation (See Datasheet)", 2 FB (in) "Voltage Loop Feedback Pin. FB is intended for constant-voltage regulation or for LED protection and open LED detection. The internal transconductance amplifier with output VC will regulate FB to 1.25V (nominal) through the (See Datasheet)", 3 ISN (in) "Connection Point for the Negative Terminal of the Current Feedback Resistor. The constant output current regulation can be programmed by ILED = 250mV/RLED when CTRL > 1.2V or ILED = (CTRL - 100mV)/(4 • RLED). If ISN i(See Datasheet)", 4 ISP (in) "Connection Point for the Positive Terminal of the Current Feedback Resistor. Input bias current depends upon CTRL pin voltage. When it is greater than INTVCC it flows into the pin. Below INTVCC, ISP bias current decreases (See Datasheet)", 5 VC "Transconductance Error Amplifier Output Pin Used to Stabilize the Switching Regulator Control Loop with an RC Network. The VC pin is high impedance when PWM is low. This feature allows the VC pin to store the demand current (See Datasheet)", 6 CTRL (in) "Current Sense Threshold Adjustment Pin. Constant current regulation point VISP-ISN is one-fourth VCTRL plus an offset for 0V =< CTRL =< 1V. For CTRL > 1.2V the VISP-ISN current regulation point is constant at the full-scale (See Datasheet)", 7 VREF (out) "Voltage Reference Output Pin, Typically 2V. This pin drives a resistor divider for the CTRL pin, either for analog dimming or for temperature limit/compensation of LED load. It can be bypassed with 10nF or greater, or less (See Datasheet)", 8 PWM (in) "A signal low turns off switcher, idles the oscillator and disconnects the VC pin from all internal loads. PWMOUT pin follows the PWM pin, except in fault conditions. The PWM pin can be driven with a digital signal to cause (See Datasheet)", 9 ~{OPENLED} (oc) "An open-drain pull-down on this pin asserts if the FB input is greater than the FB regulation voltage (VFB) minus 50mV (typical) AND the difference between current sense inputs ISP and ISN is less than 25mV. To function, the (See Datasheet)", 10 DIM/SS (in) "Soft-Start and PWMOUT Dimming Signal Generator Programming Pin. This pin modulates switching regulator frequency and compensation pin voltage (VC) clamp when it is below 1V. The soft-start interval is set with an external (See Datasheet)", 11 RT "Switching Frequency Adjustment Pin. Set the frequency using a resistor to GND (for resistor values, see the Typical Performance curve or Table 2). Do not leave the RT pin open. Place the resistor close to the IC.", 12 EN/UVLO (in) "Enable and Undervoltage Detect Pin. An accurate 1.22V falling threshold with externally programmable hysteresis causes the switching regulator to shut down when power is insufficient to maintain output regulation. Above the (See Datasheet)", 13 INTVCC (power) "Current limited, low dropout linear regulator regulates to 7.85V (typical) from VIN. Supplies internal loads, GATE and PWMOUT drivers. Must be bypassed with a 1uF ceramic capacitor placed close to the pin and to the exposed (See Datasheet)", 14 VIN (power) "Power Supply for Internal Loads and INTVCC Regulator. Must be locally bypassed with a 0.22uF (or larger) low ESR capacitor placed close to the pin.", 15 SENSE (in) "The Current Sense Input for the Switch Control Loop. Kelvin connect the SENSE pin to the positive terminal of the switch current sense resistor in the source of the external power NFET. The negative terminal of the switch (See Datasheet)", 16 GATE (out) "N-channel FET Gate Driver Output. Switches between INTVCC and GND. Driven to GND during shutdown, fault or idle states.", 17 EP (power) "Ground. This pin also serves as current sense input for the control loop, sensing the negative terminal of the current sense resistor. Solder the exposed pad directly to the ground plane."

## LT3761IMSE#TRPBF
designator U?
LED Controller with Internal PWM Generator, 4.5 to 60 V Vin, 100 V Vout MAX, 16-pin SOP (MSE-16-EDP), -40 to 125 degC, Pb-Free, Tape and Reel; Manufacturer: Linear Technology; PartNumber: LT3761IMSE#TRPBF; Output Current(A): 10; Topology: Buck, Boost, Buck-Boost, Sepic; PackageVersion: Rev. F, 05/2013; PackageReference: MSE-16; PackageDescription: 16-Pin Plastic MSOP, Exposed Die Pad, Body 4.039 x 3 mm, Pitch 0.5 mm; Supplier 1: Digi-Key; Supplier Part Number 1: LT3761IMSE#TRPBF-ND; Supplier 2: Newark; Supplier Part Number 2: 44W6856; Packing: Tape and Reel; RoHS: TRUE; Mounting Technology: Surface Mount; ComponentLink1Description: Manufacturer URL; ComponentLink1URL: http://www.linear.com/; ComponentLink2Description: Datasheet; ComponentLink2URL: http://cds.linear.com/docs/en/datasheet/3761f.pdf; ComponentLink3Description: Package Specification; ComponentLink3URL: http://cds.linear.com/docs/en/packaging/05081667_F_MSE16.pdf
footprint LT-MSE-16-EDP_N (SOP, 16-Leads, Body 4.1x3.1mm, Pitch 0.5mm, Thermal Pad 2.95x1.76mm, IPC Medium Density)
footprint LT-MSE-16-EDP_L (SOP, 16-Leads, Body 4.1x3.1mm, Pitch 0.5mm, Thermal Pad 2.95x1.76mm, IPC High Density)
footprint LT-MSE-16-EDP_M (SOP, 16-Leads, Body 4.1x3.1mm, Pitch 0.5mm, Thermal Pad 2.95x1.76mm, IPC Low Density)
pins: 1 PWMOUT (out) "Buffered Version of PWM Signal for Driving LED Load Disconnect NMOS or Level Shift. This pin also serves in a protection function for the FB overvoltage condition-will toggle if the FB input is greater than the FB regulation (See Datasheet)", 2 FB (in) "Voltage Loop Feedback Pin. FB is intended for constant-voltage regulation or for LED protection and open LED detection. The internal transconductance amplifier with output VC will regulate FB to 1.25V (nominal) through the (See Datasheet)", 3 ISN (in) "Connection Point for the Negative Terminal of the Current Feedback Resistor. The constant output current regulation can be programmed by ILED = 250mV/RLED when CTRL > 1.2V or ILED = (CTRL - 100mV)/(4 • RLED). If ISN i(See Datasheet)", 4 ISP (in) "Connection Point for the Positive Terminal of the Current Feedback Resistor. Input bias current depends upon CTRL pin voltage. When it is greater than INTVCC it flows into the pin. Below INTVCC, ISP bias current decreases (See Datasheet)", 5 VC "Transconductance Error Amplifier Output Pin Used to Stabilize the Switching Regulator Control Loop with an RC Network. The VC pin is high impedance when PWM is low. This feature allows the VC pin to store the demand current (See Datasheet)", 6 CTRL (in) "Current Sense Threshold Adjustment Pin. Constant current regulation point VISP-ISN is one-fourth VCTRL plus an offset for 0V =< CTRL =< 1V. For CTRL > 1.2V the VISP-ISN current regulation point is constant at the full-scale (See Datasheet)", 7 VREF (out) "Voltage Reference Output Pin, Typically 2V. This pin drives a resistor divider for the CTRL pin, either for analog dimming or for temperature limit/compensation of LED load. It can be bypassed with 10nF or greater, or less (See Datasheet)", 8 PWM (in) "A signal low turns off switcher, idles the oscillator and disconnects the VC pin from all internal loads. PWMOUT pin follows the PWM pin, except in fault conditions. The PWM pin can be driven with a digital signal to cause (See Datasheet)", 9 ~{OPENLED} (oc) "An open-drain pull-down on this pin asserts if the FB input is greater than the FB regulation voltage (VFB) minus 50mV (typical) AND the difference between current sense inputs ISP and ISN is less than 25mV. To function, the (See Datasheet)", 10 DIM/SS (in) "Soft-Start and PWMOUT Dimming Signal Generator Programming Pin. This pin modulates switching regulator frequency and compensation pin voltage (VC) clamp when it is below 1V. The soft-start interval is set with an external (See Datasheet)", 11 RT "Switching Frequency Adjustment Pin. Set the frequency using a resistor to GND (for resistor values, see the Typical Performance curve or Table 2). Do not leave the RT pin open. Place the resistor close to the IC.", 12 EN/UVLO (in) "Enable and Undervoltage Detect Pin. An accurate 1.22V falling threshold with externally programmable hysteresis causes the switching regulator to shut down when power is insufficient to maintain output regulation. Above the (See Datasheet)", 13 INTVCC (power) "Current limited, low dropout linear regulator regulates to 7.85V (typical) from VIN. Supplies internal loads, GATE and PWMOUT drivers. Must be bypassed with a 1uF ceramic capacitor placed close to the pin and to the exposed (See Datasheet)", 14 VIN (power) "Power Supply for Internal Loads and INTVCC Regulator. Must be locally bypassed with a 0.22uF (or larger) low ESR capacitor placed close to the pin.", 15 SENSE (in) "The Current Sense Input for the Switch Control Loop. Kelvin connect the SENSE pin to the positive terminal of the switch current sense resistor in the source of the external power NFET. The negative terminal of the switch (See Datasheet)", 16 GATE (out) "N-channel FET Gate Driver Output. Switches between INTVCC and GND. Driven to GND during shutdown, fault or idle states.", 17 EP (power) "Ground. This pin also serves as current sense input for the control loop, sensing the negative terminal of the current sense resistor. Solder the exposed pad directly to the ground plane."

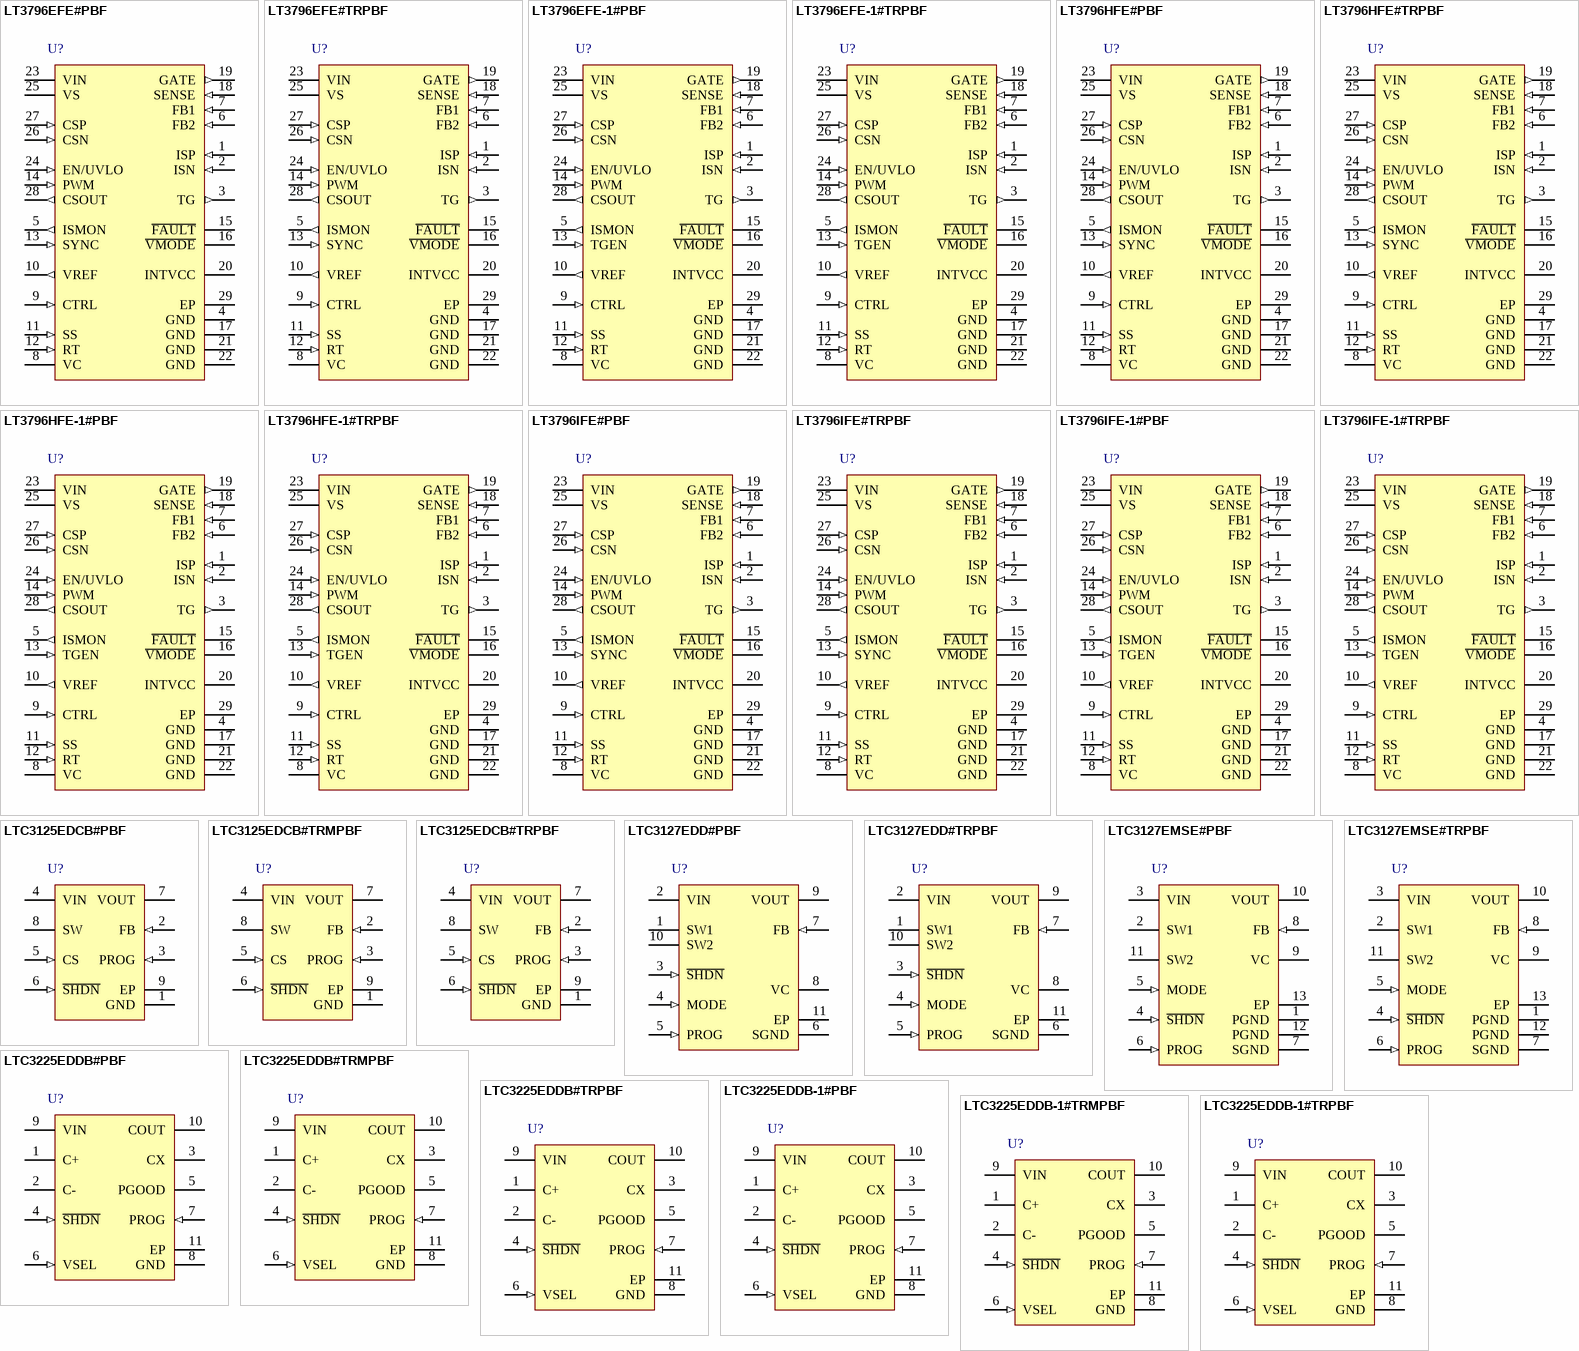
[diagram p1: symbols LT3796EFE#PBF to LTC3225EDDB-1#TRPBF]